# Altium footprint library TE_SD.PcbLib: 1 footprints
Each footprint in its own frame and in the unit in brackets; x right, y up, seen from the top. Pads: shape width x height; smd on the part's side, far side on the other; paste and mask are expansions set on the pad; w line width, h text height; cw(c..) or ccw(c..) is an arc to the next point about the centre after c.
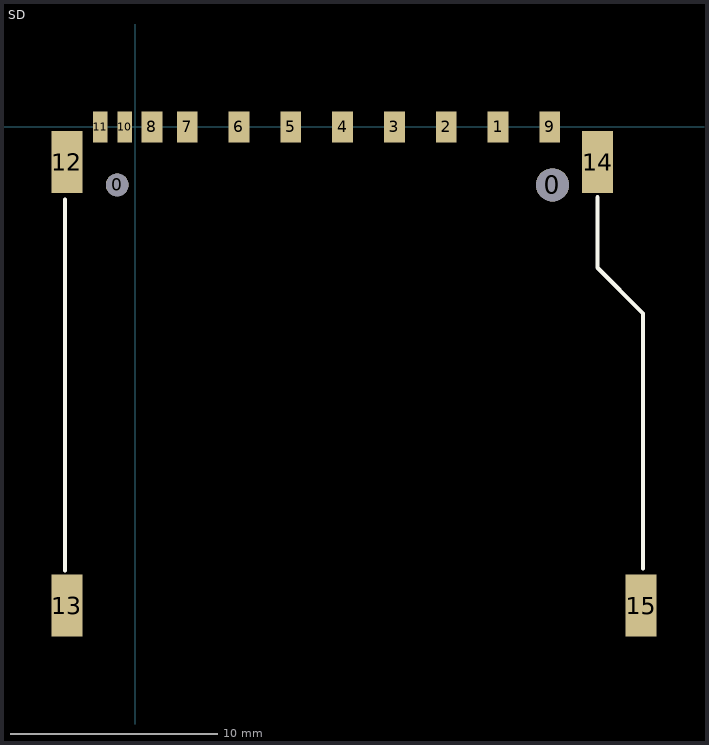
[diagram p0: the footprint, top view; thin cyan lines are the x and y axes]

## SD [mm]
height 1.8
pads (17):
  round 1.1 hole 1.1: 0(-0.875,-2.8)
  round 1.6 hole 1.6: 0(20.125,-2.8)
  rect 1x1.5 smd: 1(17.5,0) 2(15,0) 3(12.5,0) 4(10,0) 5(7.5,0) 6(5,0) 7(2.5,0) 8(0.8,0) 9(20,0)
  rect 0.7x1.5 smd: 10(-0.5,0) 11(-1.7,0)
  rect 1.5x3 smd: 12(-3.3,-1.7) 13(-3.3,-23.1) 14(22.3,-1.7) 15(24.4,-23.1)
Top Overlay:
  lines w0.2: -3.4,-21.4 -3.4,-3.5 ; 22.3,-3.4 22.3,-6.8 24.5,-9 24.5,-21.3
3D body: height 3.3, standoff -0.6, extent -3.387,-25.75 24.587,0.5